# Altium footprint library TE_640445-6.PcbLib: 1 footprints
Each footprint in its own frame and in the unit in brackets; x right, y up, seen from the top. Pads: shape width x height; smd on the part's side, far side on the other; paste and mask are expansions set on the pad; w line width, h text height; cw(c..) or ccw(c..) is an arc to the next point about the centre after c.
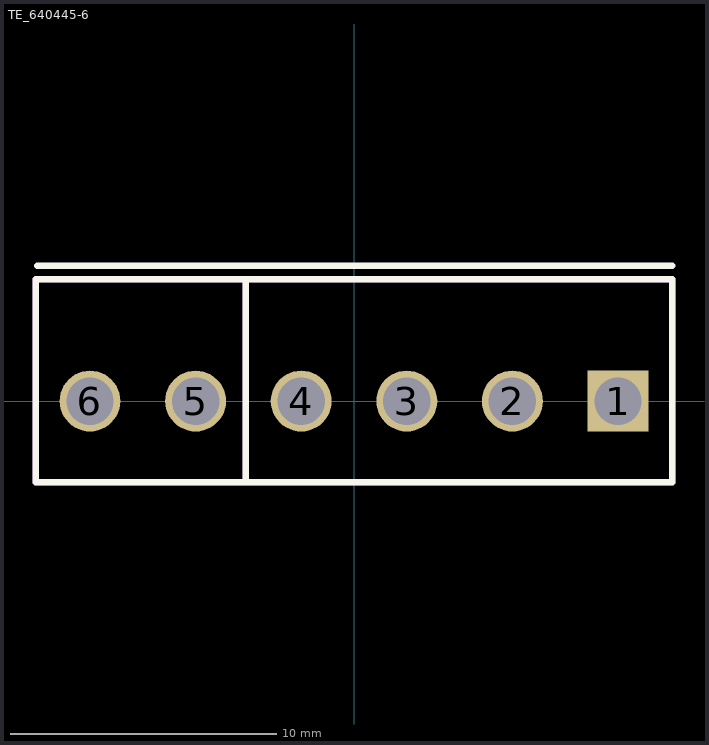
[diagram p0: the footprint, top view; thin cyan lines are the x and y axes]

## TE_640445-6 [mil] "6 pin header"
height 575
pads (6):
  rect 90x90 hole 70: 1(390,0)
  round 90 hole 70: 2(234,0) 3(78,0) 4(-78,0) 5(-234,0) 6(-390,0)
Top Overlay:
  lines w10: -468,200 470,200 ; -160,-120 -470,-120 -470,180 -160,180 ; -160,-120 -160,180 ; -160,-120 470,-120 470,180 -160,180
Mechanical 15:
  lines w10: -470,-120 -470,180 470,180 470,-120 -470,-120
Mechanical 17:
  lines w10: -160,-120 -160,180 470,180 470,-120 -160,-120
  text ".Designator" at -118,-60 h60
Mechanical 19:
  lines w10: -160,-120 -160,180 470,180 470,-120 -160,-120
  text ".Comment" at -133,-70 h60
3D body: height 525.2, standoff -124.8, extent -465.99,-119.49 470.01,180.51